# EAGLE library part MMA845X_NEW (library Freescale_Sensors_v2)
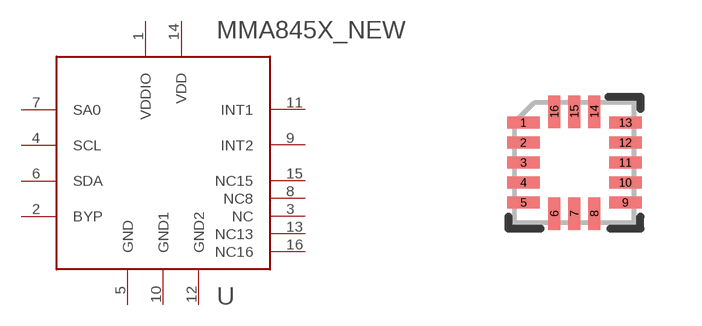
[diagram p9: symbol with the pads of QFN16_0P5_3X3; footprint QFN16_0P5_3X3]

Designator prefix -

## MMA845X_NEW  [QFN16_0P5_3X3]
1  VDDIO  pwr
2  BYP  pas
3  NC  nc
4  SCL
5  GND  pwr
6  SDA
7  SA0  in
8  NC8  nc
9  INT2  out
10  GND1  pwr
11  INT1  out
12  GND2  pwr
13  NC13  nc
14  VDD  pwr
15  NC15  nc
16  NC16  nc

## Footprint QFN16_0P5_3X3 (pad centres in mm)
smd 0.813 x 0.305: 1 -1.275,1; 2 -1.275,0.5; 3 -1.275,0; 4 -1.275,-0.5; 5 -1.275,-1; 9 1.275,-1; 10 1.275,-0.5; 11 1.275,0; 12 1.275,0.5; 13 1.275,1
smd 0.305 x 0.813: 6 -0.5,-1.275; 7 0,-1.275; 8 0.5,-1.275; 14 0.5,1.275; 15 0,1.275; 16 -0.5,1.275